# EAGLE library part 62202821821 (library Eagle_BOARD-TO-BOARD_CONNECTORS (rev18b))
WR-PHD 1.27mm Dual Socket Header, 28 Pins=>Code : Con_BTB_SHD_1.27_2_62202821821 <http://katalog.we-online.de/media/thumbs2/eican/thb_Con_BTB_SHD_1.27_2_6220xx21821_pf2.jpg> Details see: http://katalog.we-online.de/en/em/PHD_1_27_DUAL_SOCKET_HEADER_6220XX21821 Created 2014-06-04, Karrer Zheng 2014 (C) Würth Elektronik
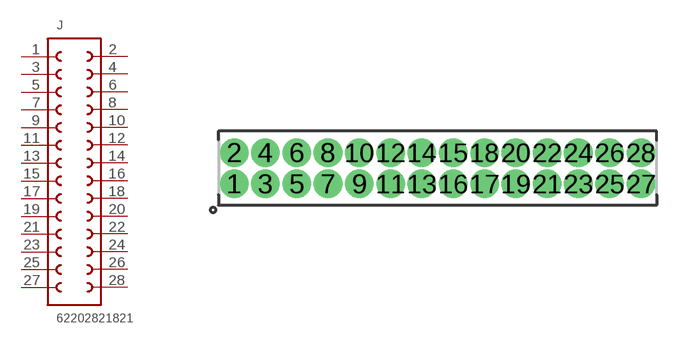
[diagram p293: symbol with the pads of 62202821821; footprint 62202821821]

Designator prefix J

## 62202821821  [62202821821]
1  1  pas
2  28  pas
3  2  pas
4  27  pas
5  3  pas
6  26  pas
7  4  pas
8  25  pas
9  5  pas
10  24  pas
11  6  pas
12  23  pas
13  7  pas
14  22  pas
15  8  pas
16  21  pas
17  9  pas
18  20  pas
19  10  pas
20  19  pas
21  11  pas
22  18  pas
23  12  pas
24  17  pas
25  13  pas
26  16  pas
27  14  pas
28  15  pas

## Footprint 62202821821 (pad centres in mm)
WR-PHD 1.27mm Dual Socket Header, 28 Pins
drill 0.65: 1 -8.255,-0.635; 2 -8.255,0.635; 3 -6.985,-0.635; 4 -6.985,0.635; 5 -5.715,-0.635; 6 -5.715,0.635; 7 -4.445,-0.635; 8 -4.445,0.635; 9 -3.175,-0.635; 10 -3.175,0.635; 11 -1.905,-0.635; 12 -1.905,0.635; 13 -0.635,-0.635; 14 -0.635,0.635; 15 0.635,0.635; 16 0.635,-0.635; 17 1.905,-0.635; 18 1.905,0.635; 19 3.175,-0.635; 20 3.175,0.635; 21 4.445,-0.635; 22 4.445,0.635; 23 5.715,-0.635; 24 5.715,0.635; 25 6.985,-0.635; 26 6.985,0.635; 27 8.255,-0.635; 28 8.255,0.635